# Altium footprint library 3-1734035-2.PcbLib: 1 footprints
Each footprint in its own frame and in the unit in brackets; x right, y up, seen from the top. Pads: shape width x height; smd on the part's side, far side on the other; paste and mask are expansions set on the pad; w line width, h text height; cw(c..) or ccw(c..) is an arc to the next point about the centre after c.
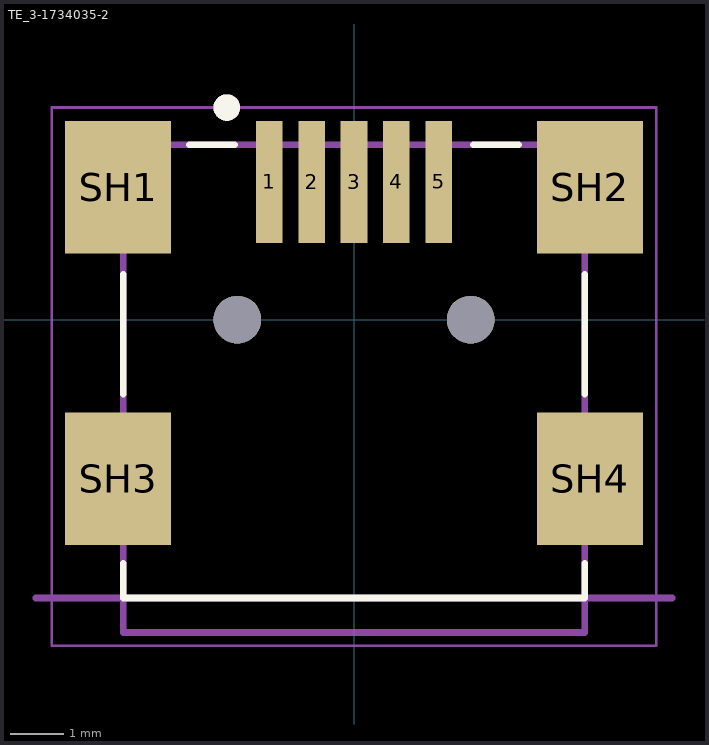
[diagram p0: the footprint, top view; thin cyan lines are the x and y axes]

## TE_3-1734035-2 [mm]
pads (11):
  rect 0.5x2.3 smd: 1(-1.6,2.6) 2(-0.8,2.6) 3(0,2.6) 4(0.8,2.6) 5(1.6,2.6)
  rect 2x2.5 smd: SH1(-4.45,2.5) SH2(4.45,2.5) SH3(-4.45,-3) SH4(4.45,-3)
  round 0.9 hole 0.9 unplated: ""(-2.2,0) ""(2.2,0)
Top Overlay:
  circle w0.3: c-2.4,4 r0.1
  lines w0.127: -4.35,-4.6 -4.35,-5.25 4.35,-5.25 4.35,-4.6 ; -4.35,-1.4 -4.35,0.85 ; -3.1,3.3 -2.25,3.3 ; 2.25,3.3 3.1,3.3 ; 4.35,-1.4 4.35,0.85
Mechanical 13:
  circle w0.3: c-2.4,4 r0.1
  lines w0.127: -6,-5.25 6,-5.25 ; -4.35,-5.9 -4.35,3.3 4.35,3.3 4.35,-5.9 -4.35,-5.9
  text "PCB EDGE" at 6.255,-5.054 h1.27
Mechanical 15:
  lines w0.05: -5.7,-6.15 -5.7,4 5.7,4 5.7,-6.15 -5.7,-6.15